# EAGLE library part VENUS838FLPX (library CougsInSpace)
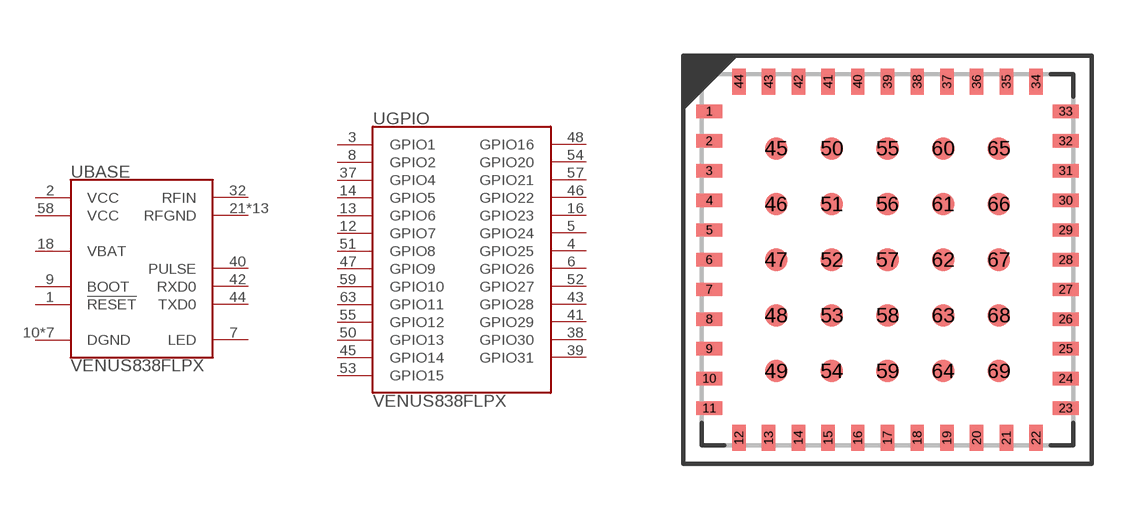
[diagram p33: symbol with the pads of VENUS838FLPX; footprint VENUS838FLPX]

Designator prefix U; gates BASE=VENUS838FLPX_BASE GPIO=VENUS838FLPX_GPIO

## VENUS838FLPX  [VENUS838FLPX]
1  BASE:!RESET  in
2  BASE:VCC  pwr
3  GPIO:GPIO1
4  GPIO:GPIO25
5  GPIO:GPIO24
6  GPIO:GPIO26
7  BASE:LED  out
8  GPIO:GPIO2
9  BASE:BOOT  in
10  BASE:DGND  pwr
11  BASE:DGND  pwr
12  GPIO:GPIO7
13  GPIO:GPIO6
14  GPIO:GPIO5
15  BASE:DGND  pwr
16  GPIO:GPIO23
18  BASE:VBAT  in
19  BASE:DGND  pwr
21  BASE:RFGND  pwr
22  BASE:RFGND  pwr
24  BASE:RFGND  pwr
25  BASE:RFGND  pwr
27  BASE:RFGND  pwr
28  BASE:RFGND  pwr
29  BASE:RFGND  pwr
31  BASE:RFGND  pwr
32  BASE:RFIN  in
33  BASE:RFGND  pwr
37  GPIO:GPIO4
38  GPIO:GPIO30
39  GPIO:GPIO31
40  BASE:PULSE  out
41  GPIO:GPIO29
42  BASE:RXD0  in
43  GPIO:GPIO28
44  BASE:TXD0  out
45  GPIO:GPIO14
46  GPIO:GPIO22
47  GPIO:GPIO9
48  GPIO:GPIO16
49  BASE:DGND  pwr
50  GPIO:GPIO13
51  GPIO:GPIO8
52  GPIO:GPIO27
53  GPIO:GPIO15
54  GPIO:GPIO20
55  GPIO:GPIO12
57  GPIO:GPIO21
58  BASE:VCC  pwr
59  GPIO:GPIO10
60  BASE:DGND  pwr
61  BASE:RFGND  pwr
62  BASE:RFGND  pwr
63  GPIO:GPIO11
64  BASE:DGND  pwr
65  BASE:RFGND  pwr
69  BASE:RFGND  pwr

## Footprint VENUS838FLPX (pad centres in mm)
smd 0.7 x 0.36: 1 -4.8,4; 2 -4.8,3.2; 3 -4.8,2.4; 4 -4.8,1.6; 5 -4.8,0.8; 6 -4.8,0; 7 -4.8,-0.8; 8 -4.8,-1.6; 9 -4.8,-2.4; 10 -4.8,-3.2; 11 -4.8,-4; 23 4.8,-4; 24 4.8,-3.2; 25 4.8,-2.4; 26 4.8,-1.6; 27 4.8,-0.8; 28 4.8,0; 29 4.8,0.8; 30 4.8,1.6; 31 4.8,2.4; 32 4.8,3.2; 33 4.8,4
smd 0.36 x 0.7: 12 -4,-4.8; 13 -3.2,-4.8; 14 -2.4,-4.8; 15 -1.6,-4.8; 16 -0.8,-4.8; 17 0,-4.8; 18 0.8,-4.8; 19 1.6,-4.8; 20 2.4,-4.8; 21 3.2,-4.8; 22 4,-4.8; 34 4,4.8; 35 3.2,4.8; 36 2.4,4.8; 37 1.6,4.8; 38 0.8,4.8; 39 0,4.8; 40 -0.8,4.8; 41 -1.6,4.8; 42 -2.4,4.8; 43 -3.2,4.8; 44 -4,4.8
smd 0.6 x 0.6: 45 -3,3; 46 -3,1.5; 47 -3,0; 48 -3,-1.5; 49 -3,-3; 50 -1.5,3; 51 -1.5,1.5; 52 -1.5,0; 53 -1.5,-1.5; 54 -1.5,-3; 55 0,3; 56 0,1.5; 57 0,0; 58 0,-1.5; 59 0,-3; 60 1.5,3; 61 1.5,1.5; 62 1.5,0; 63 1.5,-1.5; 64 1.5,-3; 65 3,3; 66 3,1.5; 67 3,0; 68 3,-1.5; 69 3,-3